# EAGLE library part LNK302 (library powercube)
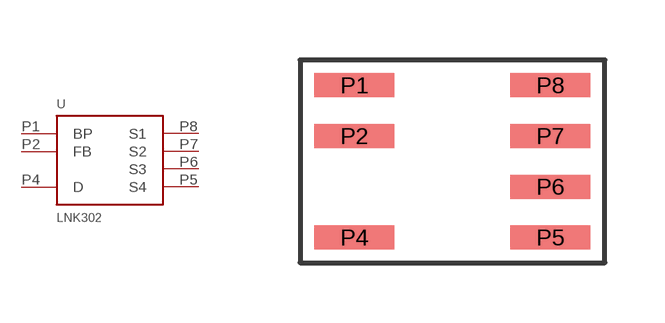
[diagram p7: symbol with the pads of LNK302; footprint LNK302]

Designator prefix -

## LNK302 (DIGIKEY: 596-1236-1-ND)  [LNK302]
P1  BP
P2  FB
P4  D
P5  S4
P6  S3
P7  S2
P8  S1

## Footprint LNK302 (pad centres in mm)
smd 2 x 0.6: P1 -2.45,1.905; P2 -2.45,0.635; P4 -2.45,-1.905; P5 2.45,-1.905; P6 2.45,-0.635; P7 2.45,0.635; P8 2.45,1.905